# Altium footprint library Connector_PinHeader_1.27mm.PcbLib: 278 footprints (part 13 of 18)
Each footprint in its own frame and in the unit in brackets; x right, y up, seen from the top. Pads: shape width x height; smd on the part's side, far side on the other; paste and mask are expansions set on the pad; w line width, h text height; cw(c..) or ccw(c..) is an arc to the next point about the centre after c.
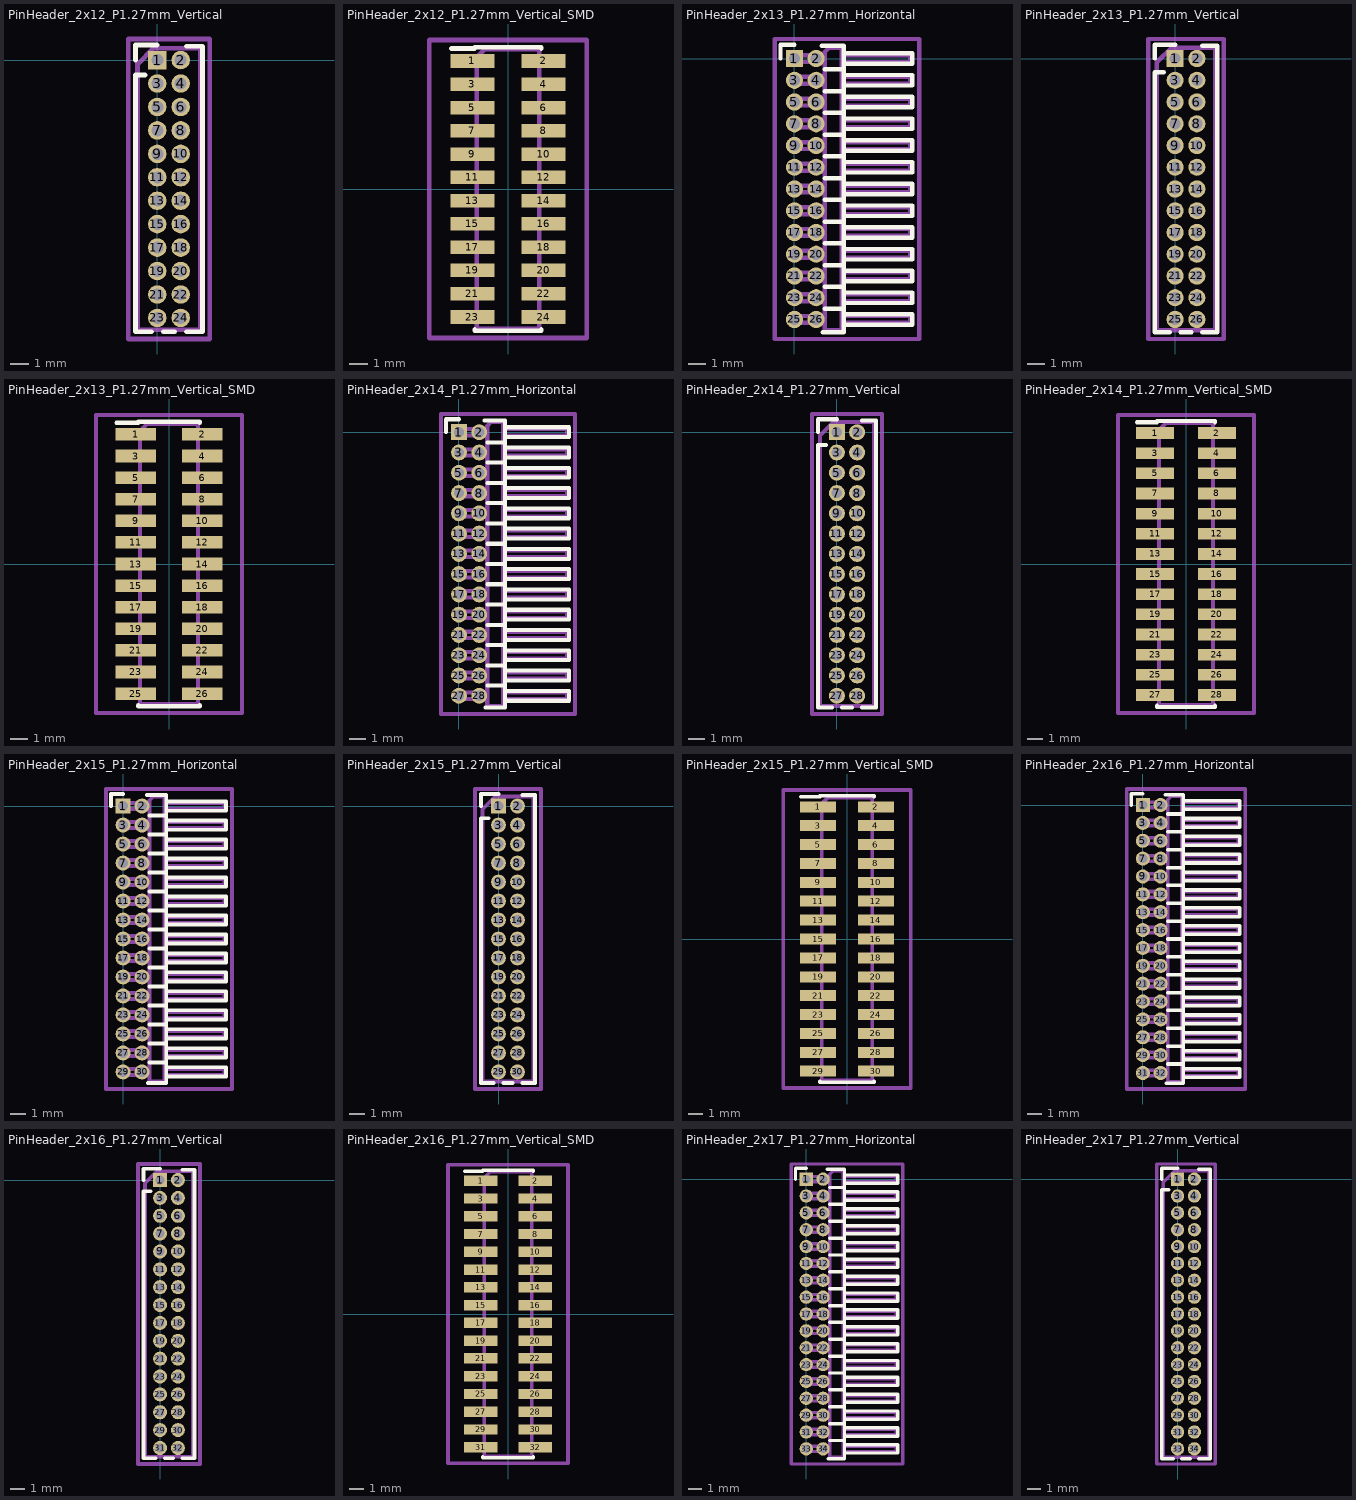
[diagram p12: the footprints below, top view; thin cyan lines are the x and y axes]

## PinHeader_2x12_P1.27mm_Vertical [mm]
pads (24):
  rect 1x1 hole 0.65: 1(0,0)
  round 1 hole 0.65: 2(1.27,0) 3(0,-1.27) 4(1.27,-1.27) 5(0,-2.54) 6(1.27,-2.54) 7(0,-3.81) 8(1.27,-3.81) 9(0,-5.08) 10(1.27,-5.08) 11(0,-6.35) 12(1.27,-6.35) 13(0,-7.62) 14(1.27,-7.62) 15(0,-8.89) 16(1.27,-8.89) 17(0,-10.16) 18(1.27,-10.16) 19(0,-11.43) 20(1.27,-11.43) 21(0,-12.7) 22(1.27,-12.7) 23(0,-13.97) 24(1.27,-13.97)
F.SilkS:
  lines w0.254: -1.18,0 -1.18,0.81 0,0.81 ; -0.667,-0.81 -1.18,-0.81 -1.18,-14.715 -0.318,-14.715 ; 0.318,-14.715 0.952,-14.715 ; 1.588,-14.715 2.45,-14.715 2.45,0.745 1.588,0.745
Top Assembly:
  lines w0.254: -1.07,-14.605 2.34,-14.605 2.34,0.635 -0.218,0.635 -1.07,-0.218 -1.07,-14.605
  text "'.Designator'" at 1.475,-11.032 h1
Top Courtyard:
  lines w0.254: -1.57,-15.11 2.84,-15.11 2.84,1.14 -1.57,1.14 -1.57,-15.11
Top Designator:
  text ".Designator" at -6.983,-7.493 h1.52

## PinHeader_2x12_P1.27mm_Vertical_SMD [mm]
pads (24):
  rect 2.4x0.74 smd: 1(-1.95,6.985) 2(1.95,6.985) 3(-1.95,5.715) 4(1.95,5.715) 5(-1.95,4.445) 6(1.95,4.445) 7(-1.95,3.175) 8(1.95,3.175) 9(-1.95,1.905) 10(1.95,1.905) 11(-1.95,0.635) 12(1.95,0.635) 13(-1.95,-0.635) 14(1.95,-0.635) 15(-1.95,-1.905) 16(1.95,-1.905) 17(-1.95,-3.175) 18(1.95,-3.175) 19(-1.95,-4.445) 20(1.95,-4.445) 21(-1.95,-5.715) 22(1.95,-5.715) 23(-1.95,-6.985) 24(1.95,-6.985)
F.SilkS:
  lines w0.254: -3.09,7.665 -1.815,7.665 -1.815,7.73 1.815,7.73 1.815,7.665 ; -1.815,-7.665 -1.815,-7.73 1.815,-7.73 1.815,-7.665
Top Assembly:
  lines w0.254: -1.705,-7.185 -2.75,-7.185 -2.75,-6.785 -1.705,-6.785 ; -1.705,-5.915 -2.75,-5.915 -2.75,-5.515 -1.705,-5.515 ; -1.705,-4.645 -2.75,-4.645 -2.75,-4.245 -1.705,-4.245 ; -1.705,-3.375 -2.75,-3.375 -2.75,-2.975 -1.705,-2.975 ; -1.705,-2.105 -2.75,-2.105 -2.75,-1.705 -1.705,-1.705 ; -1.705,-0.835 -2.75,-0.835 -2.75,-0.435 -1.705,-0.435 ; -1.705,0.435 -2.75,0.435 -2.75,0.835 -1.705,0.835 ; -1.705,1.705 -2.75,1.705 -2.75,2.105 -1.705,2.105 ; -1.705,2.975 -2.75,2.975 -2.75,3.375 -1.705,3.375 ; -1.705,4.245 -2.75,4.245 -2.75,4.645 -1.705,4.645 ; -1.705,5.515 -2.75,5.515 -2.75,5.915 -1.705,5.915 ; -1.705,6.785 -2.75,6.785 -2.75,7.185 -1.705,7.185 ; 1.705,-7.185 2.75,-7.185 2.75,-6.785 1.705,-6.785 ; 1.705,-5.915 2.75,-5.915 2.75,-5.515 1.705,-5.515 ; 1.705,-4.645 2.75,-4.645 2.75,-4.245 1.705,-4.245 ; 1.705,-3.375 2.75,-3.375 2.75,-2.975 1.705,-2.975 ; 1.705,-2.105 2.75,-2.105 2.75,-1.705 1.705,-1.705 ; 1.705,-0.835 2.75,-0.835 2.75,-0.435 1.705,-0.435 ; 1.705,0.435 2.75,0.435 2.75,0.835 1.705,0.835 ; 1.705,1.705 2.75,1.705 2.75,2.105 1.705,2.105 ; 1.705,2.975 2.75,2.975 2.75,3.375 1.705,3.375 ; 1.705,4.245 2.75,4.245 2.75,4.645 1.705,4.645 ; 1.705,5.515 2.75,5.515 2.75,5.915 1.705,5.915 ; 1.705,6.785 2.75,6.785 2.75,7.185 1.705,7.185 ; -1.705,7.185 -1.705,-7.62 1.705,-7.62 1.705,7.62 -1.27,7.62 -1.705,7.185
  text "'.Designator'" at 0.84,-4.047 h1
Top Courtyard:
  lines w0.254: -4.29,-8.13 4.29,-8.13 4.29,8.13 -4.29,8.13 -4.29,-8.13
Top Designator:
  text ".Designator" at -7.618,-0.508 h1.52

## PinHeader_2x13_P1.27mm_Horizontal [mm]
pads (26):
  rect 1x1 hole 0.65: 1(0,0)
  round 1 hole 0.65: 2(1.27,0) 3(0,-1.27) 4(1.27,-1.27) 5(0,-2.54) 6(1.27,-2.54) 7(0,-3.81) 8(1.27,-3.81) 9(0,-5.08) 10(1.27,-5.08) 11(0,-6.35) 12(1.27,-6.35) 13(0,-7.62) 14(1.27,-7.62) 15(0,-8.89) 16(1.27,-8.89) 17(0,-10.16) 18(1.27,-10.16) 19(0,-11.43) 20(1.27,-11.43) 21(0,-12.7) 22(1.27,-12.7) 23(0,-13.97) 24(1.27,-13.97) 25(0,-15.24) 26(1.27,-15.24)
F.SilkS:
  lines w0.254: -0.81,0 -0.81,0.81 0,0.81 ; 1.588,0.745 2.88,0.745 2.88,-15.985 1.66,-15.985 ; 1.773,-14.605 2.88,-14.605 ; 1.773,-13.335 2.88,-13.335 ; 1.773,-12.065 2.88,-12.065 ; 1.773,-10.795 2.88,-10.795 ; 1.773,-9.525 2.88,-9.525 ; 1.773,-8.255 2.88,-8.255 ; 1.773,-6.985 2.88,-6.985 ; 1.773,-5.715 2.88,-5.715 ; 1.773,-4.445 2.88,-4.445 ; 1.773,-3.175 2.88,-3.175 ; 1.773,-1.905 2.88,-1.905 ; 1.773,-0.635 2.88,-0.635 ; 2.88,-15.55 6.88,-15.55 6.88,-14.93 2.88,-14.93 ; 2.88,-14.28 6.88,-14.28 6.88,-13.66 2.88,-13.66 ; 2.88,-13.01 6.88,-13.01 6.88,-12.39 2.88,-12.39 ; 2.88,-11.74 6.88,-11.74 6.88,-11.12 2.88,-11.12 ; 2.88,-10.47 6.88,-10.47 6.88,-9.85 2.88,-9.85 ; 2.88,-9.2 6.88,-9.2 6.88,-8.58 2.88,-8.58 ; 2.88,-7.93 6.88,-7.93 6.88,-7.31 2.88,-7.31 ; 2.88,-6.66 6.88,-6.66 6.88,-6.04 2.88,-6.04 ; 2.88,-5.39 6.88,-5.39 6.88,-4.77 2.88,-4.77 ; 2.88,-4.12 6.88,-4.12 6.88,-3.5 2.88,-3.5 ; 2.88,-2.85 6.88,-2.85 6.88,-2.23 2.88,-2.23 ; 2.88,-1.58 6.88,-1.58 6.88,-0.96 2.88,-0.96 ; 2.88,-0.31 6.88,-0.31 6.88,0.31 2.88,0.31 2.88,-0.31
Top Assembly:
  lines w0.254: 1.77,-15.44 -0.2,-15.44 -0.2,-15.04 1.77,-15.04 ; 1.77,-14.17 -0.2,-14.17 -0.2,-13.77 1.77,-13.77 ; 1.77,-12.9 -0.2,-12.9 -0.2,-12.5 1.77,-12.5 ; 1.77,-11.63 -0.2,-11.63 -0.2,-11.23 1.77,-11.23 ; 1.77,-10.36 -0.2,-10.36 -0.2,-9.96 1.77,-9.96 ; 1.77,-9.09 -0.2,-9.09 -0.2,-8.69 1.77,-8.69 ; 1.77,-7.82 -0.2,-7.82 -0.2,-7.42 1.77,-7.42 ; 1.77,-6.55 -0.2,-6.55 -0.2,-6.15 1.77,-6.15 ; 1.77,-5.28 -0.2,-5.28 -0.2,-4.88 1.77,-4.88 ; 1.77,-4.01 -0.2,-4.01 -0.2,-3.61 1.77,-3.61 ; 1.77,-2.74 -0.2,-2.74 -0.2,-2.34 1.77,-2.34 ; 1.77,-1.47 -0.2,-1.47 -0.2,-1.07 1.77,-1.07 ; 1.77,-0.2 -0.2,-0.2 -0.2,0.2 1.77,0.2 ; 2.77,-15.44 6.77,-15.44 6.77,-15.04 2.77,-15.04 ; 2.77,-14.17 6.77,-14.17 6.77,-13.77 2.77,-13.77 ; 2.77,-12.9 6.77,-12.9 6.77,-12.5 2.77,-12.5 ; 2.77,-11.63 6.77,-11.63 6.77,-11.23 2.77,-11.23 ; 2.77,-10.36 6.77,-10.36 6.77,-9.96 2.77,-9.96 ; 2.77,-9.09 6.77,-9.09 6.77,-8.69 2.77,-8.69 ; 2.77,-7.82 6.77,-7.82 6.77,-7.42 2.77,-7.42 ; 2.77,-6.55 6.77,-6.55 6.77,-6.15 2.77,-6.15 ; 2.77,-5.28 6.77,-5.28 6.77,-4.88 2.77,-4.88 ; 2.77,-4.01 6.77,-4.01 6.77,-3.61 2.77,-3.61 ; 2.77,-2.74 6.77,-2.74 6.77,-2.34 2.77,-2.34 ; 2.77,-1.47 6.77,-1.47 6.77,-1.07 2.77,-1.07 ; 2.77,-0.2 6.77,-0.2 6.77,0.2 2.77,0.2 ; 1.77,-15.875 2.77,-15.875 2.77,0.635 2.02,0.635 1.77,0.385 1.77,-15.875
  text "'.Designator'" at 2.774,-10.048 h0.6
Top Courtyard:
  lines w0.254: -1.14,-16.38 7.28,-16.38 7.28,1.14 -1.14,1.14 -1.14,-16.38
Top Designator:
  text ".Designator" at -4.548,-8.128 h1.52

## PinHeader_2x13_P1.27mm_Vertical [mm]
pads (26):
  rect 1x1 hole 0.65: 1(0,0)
  round 1 hole 0.65: 2(1.27,0) 3(0,-1.27) 4(1.27,-1.27) 5(0,-2.54) 6(1.27,-2.54) 7(0,-3.81) 8(1.27,-3.81) 9(0,-5.08) 10(1.27,-5.08) 11(0,-6.35) 12(1.27,-6.35) 13(0,-7.62) 14(1.27,-7.62) 15(0,-8.89) 16(1.27,-8.89) 17(0,-10.16) 18(1.27,-10.16) 19(0,-11.43) 20(1.27,-11.43) 21(0,-12.7) 22(1.27,-12.7) 23(0,-13.97) 24(1.27,-13.97) 25(0,-15.24) 26(1.27,-15.24)
F.SilkS:
  lines w0.254: -1.18,0 -1.18,0.81 0,0.81 ; -0.667,-0.81 -1.18,-0.81 -1.18,-15.985 -0.318,-15.985 ; 0.318,-15.985 0.952,-15.985 ; 1.588,-15.985 2.45,-15.985 2.45,0.745 1.588,0.745
Top Assembly:
  lines w0.254: -1.07,-15.875 2.34,-15.875 2.34,0.635 -0.218,0.635 -1.07,-0.218 -1.07,-15.875
  text "'.Designator'" at 1.475,-11.667 h1
Top Courtyard:
  lines w0.254: -1.57,-16.38 2.84,-16.38 2.84,1.14 -1.57,1.14 -1.57,-16.38
Top Designator:
  text ".Designator" at -6.983,-8.128 h1.52

## PinHeader_2x13_P1.27mm_Vertical_SMD [mm]
pads (26):
  rect 2.4x0.74 smd: 1(-1.95,7.62) 2(1.95,7.62) 3(-1.95,6.35) 4(1.95,6.35) 5(-1.95,5.08) 6(1.95,5.08) 7(-1.95,3.81) 8(1.95,3.81) 9(-1.95,2.54) 10(1.95,2.54) 11(-1.95,1.27) 12(1.95,1.27) 13(-1.95,0) 14(1.95,0) 15(-1.95,-1.27) 16(1.95,-1.27) 17(-1.95,-2.54) 18(1.95,-2.54) 19(-1.95,-3.81) 20(1.95,-3.81) 21(-1.95,-5.08) 22(1.95,-5.08) 23(-1.95,-6.35) 24(1.95,-6.35) 25(-1.95,-7.62) 26(1.95,-7.62)
F.SilkS:
  lines w0.254: -3.09,8.3 -1.815,8.3 -1.815,8.365 1.815,8.365 1.815,8.3 ; -1.815,-8.3 -1.815,-8.365 1.815,-8.365 1.815,-8.3
Top Assembly:
  lines w0.254: -1.705,-7.82 -2.75,-7.82 -2.75,-7.42 -1.705,-7.42 ; -1.705,-6.55 -2.75,-6.55 -2.75,-6.15 -1.705,-6.15 ; -1.705,-5.28 -2.75,-5.28 -2.75,-4.88 -1.705,-4.88 ; -1.705,-4.01 -2.75,-4.01 -2.75,-3.61 -1.705,-3.61 ; -1.705,-2.74 -2.75,-2.74 -2.75,-2.34 -1.705,-2.34 ; -1.705,-1.47 -2.75,-1.47 -2.75,-1.07 -1.705,-1.07 ; -1.705,-0.2 -2.75,-0.2 -2.75,0.2 -1.705,0.2 ; -1.705,1.07 -2.75,1.07 -2.75,1.47 -1.705,1.47 ; -1.705,2.34 -2.75,2.34 -2.75,2.74 -1.705,2.74 ; -1.705,3.61 -2.75,3.61 -2.75,4.01 -1.705,4.01 ; -1.705,4.88 -2.75,4.88 -2.75,5.28 -1.705,5.28 ; -1.705,6.15 -2.75,6.15 -2.75,6.55 -1.705,6.55 ; -1.705,7.42 -2.75,7.42 -2.75,7.82 -1.705,7.82 ; 1.705,-7.82 2.75,-7.82 2.75,-7.42 1.705,-7.42 ; 1.705,-6.55 2.75,-6.55 2.75,-6.15 1.705,-6.15 ; 1.705,-5.28 2.75,-5.28 2.75,-4.88 1.705,-4.88 ; 1.705,-4.01 2.75,-4.01 2.75,-3.61 1.705,-3.61 ; 1.705,-2.74 2.75,-2.74 2.75,-2.34 1.705,-2.34 ; 1.705,-1.47 2.75,-1.47 2.75,-1.07 1.705,-1.07 ; 1.705,-0.2 2.75,-0.2 2.75,0.2 1.705,0.2 ; 1.705,1.07 2.75,1.07 2.75,1.47 1.705,1.47 ; 1.705,2.34 2.75,2.34 2.75,2.74 1.705,2.74 ; 1.705,3.61 2.75,3.61 2.75,4.01 1.705,4.01 ; 1.705,4.88 2.75,4.88 2.75,5.28 1.705,5.28 ; 1.705,6.15 2.75,6.15 2.75,6.55 1.705,6.55 ; 1.705,7.42 2.75,7.42 2.75,7.82 1.705,7.82 ; -1.705,7.82 -1.705,-8.255 1.705,-8.255 1.705,8.255 -1.27,8.255 -1.705,7.82
  text "'.Designator'" at 0.84,-4.047 h1
Top Courtyard:
  lines w0.254: -4.29,-8.76 4.29,-8.76 4.29,8.76 -4.29,8.76 -4.29,-8.76
Top Designator:
  text ".Designator" at -7.618,-0.508 h1.52

## PinHeader_2x14_P1.27mm_Horizontal [mm]
pads (28):
  rect 1x1 hole 0.65: 1(0,0)
  round 1 hole 0.65: 2(1.27,0) 3(0,-1.27) 4(1.27,-1.27) 5(0,-2.54) 6(1.27,-2.54) 7(0,-3.81) 8(1.27,-3.81) 9(0,-5.08) 10(1.27,-5.08) 11(0,-6.35) 12(1.27,-6.35) 13(0,-7.62) 14(1.27,-7.62) 15(0,-8.89) 16(1.27,-8.89) 17(0,-10.16) 18(1.27,-10.16) 19(0,-11.43) 20(1.27,-11.43) 21(0,-12.7) 22(1.27,-12.7) 23(0,-13.97) 24(1.27,-13.97) 25(0,-15.24) 26(1.27,-15.24) 27(0,-16.51) 28(1.27,-16.51)
F.SilkS:
  lines w0.254: -0.81,0 -0.81,0.81 0,0.81 ; 1.588,0.745 2.88,0.745 2.88,-17.255 1.66,-17.255 ; 1.773,-15.875 2.88,-15.875 ; 1.773,-14.605 2.88,-14.605 ; 1.773,-13.335 2.88,-13.335 ; 1.773,-12.065 2.88,-12.065 ; 1.773,-10.795 2.88,-10.795 ; 1.773,-9.525 2.88,-9.525 ; 1.773,-8.255 2.88,-8.255 ; 1.773,-6.985 2.88,-6.985 ; 1.773,-5.715 2.88,-5.715 ; 1.773,-4.445 2.88,-4.445 ; 1.773,-3.175 2.88,-3.175 ; 1.773,-1.905 2.88,-1.905 ; 1.773,-0.635 2.88,-0.635 ; 2.88,-16.82 6.88,-16.82 6.88,-16.2 2.88,-16.2 ; 2.88,-15.55 6.88,-15.55 6.88,-14.93 2.88,-14.93 ; 2.88,-14.28 6.88,-14.28 6.88,-13.66 2.88,-13.66 ; 2.88,-13.01 6.88,-13.01 6.88,-12.39 2.88,-12.39 ; 2.88,-11.74 6.88,-11.74 6.88,-11.12 2.88,-11.12 ; 2.88,-10.47 6.88,-10.47 6.88,-9.85 2.88,-9.85 ; 2.88,-9.2 6.88,-9.2 6.88,-8.58 2.88,-8.58 ; 2.88,-7.93 6.88,-7.93 6.88,-7.31 2.88,-7.31 ; 2.88,-6.66 6.88,-6.66 6.88,-6.04 2.88,-6.04 ; 2.88,-5.39 6.88,-5.39 6.88,-4.77 2.88,-4.77 ; 2.88,-4.12 6.88,-4.12 6.88,-3.5 2.88,-3.5 ; 2.88,-2.85 6.88,-2.85 6.88,-2.23 2.88,-2.23 ; 2.88,-1.58 6.88,-1.58 6.88,-0.96 2.88,-0.96 ; 2.88,-0.31 6.88,-0.31 6.88,0.31 2.88,0.31 2.88,-0.31
Top Assembly:
  lines w0.254: 1.77,-16.71 -0.2,-16.71 -0.2,-16.31 1.77,-16.31 ; 1.77,-15.44 -0.2,-15.44 -0.2,-15.04 1.77,-15.04 ; 1.77,-14.17 -0.2,-14.17 -0.2,-13.77 1.77,-13.77 ; 1.77,-12.9 -0.2,-12.9 -0.2,-12.5 1.77,-12.5 ; 1.77,-11.63 -0.2,-11.63 -0.2,-11.23 1.77,-11.23 ; 1.77,-10.36 -0.2,-10.36 -0.2,-9.96 1.77,-9.96 ; 1.77,-9.09 -0.2,-9.09 -0.2,-8.69 1.77,-8.69 ; 1.77,-7.82 -0.2,-7.82 -0.2,-7.42 1.77,-7.42 ; 1.77,-6.55 -0.2,-6.55 -0.2,-6.15 1.77,-6.15 ; 1.77,-5.28 -0.2,-5.28 -0.2,-4.88 1.77,-4.88 ; 1.77,-4.01 -0.2,-4.01 -0.2,-3.61 1.77,-3.61 ; 1.77,-2.74 -0.2,-2.74 -0.2,-2.34 1.77,-2.34 ; 1.77,-1.47 -0.2,-1.47 -0.2,-1.07 1.77,-1.07 ; 1.77,-0.2 -0.2,-0.2 -0.2,0.2 1.77,0.2 ; 2.77,-16.71 6.77,-16.71 6.77,-16.31 2.77,-16.31 ; 2.77,-15.44 6.77,-15.44 6.77,-15.04 2.77,-15.04 ; 2.77,-14.17 6.77,-14.17 6.77,-13.77 2.77,-13.77 ; 2.77,-12.9 6.77,-12.9 6.77,-12.5 2.77,-12.5 ; 2.77,-11.63 6.77,-11.63 6.77,-11.23 2.77,-11.23 ; 2.77,-10.36 6.77,-10.36 6.77,-9.96 2.77,-9.96 ; 2.77,-9.09 6.77,-9.09 6.77,-8.69 2.77,-8.69 ; 2.77,-7.82 6.77,-7.82 6.77,-7.42 2.77,-7.42 ; 2.77,-6.55 6.77,-6.55 6.77,-6.15 2.77,-6.15 ; 2.77,-5.28 6.77,-5.28 6.77,-4.88 2.77,-4.88 ; 2.77,-4.01 6.77,-4.01 6.77,-3.61 2.77,-3.61 ; 2.77,-2.74 6.77,-2.74 6.77,-2.34 2.77,-2.34 ; 2.77,-1.47 6.77,-1.47 6.77,-1.07 2.77,-1.07 ; 2.77,-0.2 6.77,-0.2 6.77,0.2 2.77,0.2 ; 1.77,-17.145 2.77,-17.145 2.77,0.635 2.02,0.635 1.77,0.385 1.77,-17.145
  text "'.Designator'" at 2.774,-10.683 h0.6
Top Courtyard:
  lines w0.254: -1.14,-17.65 7.28,-17.65 7.28,1.14 -1.14,1.14 -1.14,-17.65
Top Designator:
  text ".Designator" at -4.548,-8.763 h1.52

## PinHeader_2x14_P1.27mm_Vertical [mm]
pads (28):
  rect 1x1 hole 0.65: 1(0,0)
  round 1 hole 0.65: 2(1.27,0) 3(0,-1.27) 4(1.27,-1.27) 5(0,-2.54) 6(1.27,-2.54) 7(0,-3.81) 8(1.27,-3.81) 9(0,-5.08) 10(1.27,-5.08) 11(0,-6.35) 12(1.27,-6.35) 13(0,-7.62) 14(1.27,-7.62) 15(0,-8.89) 16(1.27,-8.89) 17(0,-10.16) 18(1.27,-10.16) 19(0,-11.43) 20(1.27,-11.43) 21(0,-12.7) 22(1.27,-12.7) 23(0,-13.97) 24(1.27,-13.97) 25(0,-15.24) 26(1.27,-15.24) 27(0,-16.51) 28(1.27,-16.51)
F.SilkS:
  lines w0.254: -1.18,0 -1.18,0.81 0,0.81 ; -0.667,-0.81 -1.18,-0.81 -1.18,-17.255 -0.318,-17.255 ; 0.318,-17.255 0.952,-17.255 ; 1.588,-17.255 2.45,-17.255 2.45,0.745 1.588,0.745
Top Assembly:
  lines w0.254: -1.07,-17.145 2.34,-17.145 2.34,0.635 -0.218,0.635 -1.07,-0.218 -1.07,-17.145
  text "'.Designator'" at 1.475,-12.302 h1
Top Courtyard:
  lines w0.254: -1.57,-17.65 2.84,-17.65 2.84,1.14 -1.57,1.14 -1.57,-17.65
Top Designator:
  text ".Designator" at -6.983,-8.763 h1.52

## PinHeader_2x14_P1.27mm_Vertical_SMD [mm]
pads (28):
  rect 2.4x0.74 smd: 1(-1.95,8.255) 2(1.95,8.255) 3(-1.95,6.985) 4(1.95,6.985) 5(-1.95,5.715) 6(1.95,5.715) 7(-1.95,4.445) 8(1.95,4.445) 9(-1.95,3.175) 10(1.95,3.175) 11(-1.95,1.905) 12(1.95,1.905) 13(-1.95,0.635) 14(1.95,0.635) 15(-1.95,-0.635) 16(1.95,-0.635) 17(-1.95,-1.905) 18(1.95,-1.905) 19(-1.95,-3.175) 20(1.95,-3.175) 21(-1.95,-4.445) 22(1.95,-4.445) 23(-1.95,-5.715) 24(1.95,-5.715) 25(-1.95,-6.985) 26(1.95,-6.985) 27(-1.95,-8.255) 28(1.95,-8.255)
F.SilkS:
  lines w0.254: -3.09,8.935 -1.815,8.935 -1.815,9 1.815,9 1.815,8.935 ; -1.815,-8.935 -1.815,-9 1.815,-9 1.815,-8.935
Top Assembly:
  lines w0.254: -1.705,-8.455 -2.75,-8.455 -2.75,-8.055 -1.705,-8.055 ; -1.705,-7.185 -2.75,-7.185 -2.75,-6.785 -1.705,-6.785 ; -1.705,-5.915 -2.75,-5.915 -2.75,-5.515 -1.705,-5.515 ; -1.705,-4.645 -2.75,-4.645 -2.75,-4.245 -1.705,-4.245 ; -1.705,-3.375 -2.75,-3.375 -2.75,-2.975 -1.705,-2.975 ; -1.705,-2.105 -2.75,-2.105 -2.75,-1.705 -1.705,-1.705 ; -1.705,-0.835 -2.75,-0.835 -2.75,-0.435 -1.705,-0.435 ; -1.705,0.435 -2.75,0.435 -2.75,0.835 -1.705,0.835 ; -1.705,1.705 -2.75,1.705 -2.75,2.105 -1.705,2.105 ; -1.705,2.975 -2.75,2.975 -2.75,3.375 -1.705,3.375 ; -1.705,4.245 -2.75,4.245 -2.75,4.645 -1.705,4.645 ; -1.705,5.515 -2.75,5.515 -2.75,5.915 -1.705,5.915 ; -1.705,6.785 -2.75,6.785 -2.75,7.185 -1.705,7.185 ; -1.705,8.055 -2.75,8.055 -2.75,8.455 -1.705,8.455 ; 1.705,-8.455 2.75,-8.455 2.75,-8.055 1.705,-8.055 ; 1.705,-7.185 2.75,-7.185 2.75,-6.785 1.705,-6.785 ; 1.705,-5.915 2.75,-5.915 2.75,-5.515 1.705,-5.515 ; 1.705,-4.645 2.75,-4.645 2.75,-4.245 1.705,-4.245 ; 1.705,-3.375 2.75,-3.375 2.75,-2.975 1.705,-2.975 ; 1.705,-2.105 2.75,-2.105 2.75,-1.705 1.705,-1.705 ; 1.705,-0.835 2.75,-0.835 2.75,-0.435 1.705,-0.435 ; 1.705,0.435 2.75,0.435 2.75,0.835 1.705,0.835 ; 1.705,1.705 2.75,1.705 2.75,2.105 1.705,2.105 ; 1.705,2.975 2.75,2.975 2.75,3.375 1.705,3.375 ; 1.705,4.245 2.75,4.245 2.75,4.645 1.705,4.645 ; 1.705,5.515 2.75,5.515 2.75,5.915 1.705,5.915 ; 1.705,6.785 2.75,6.785 2.75,7.185 1.705,7.185 ; 1.705,8.055 2.75,8.055 2.75,8.455 1.705,8.455 ; -1.705,8.455 -1.705,-8.89 1.705,-8.89 1.705,8.89 -1.27,8.89 -1.705,8.455
  text "'.Designator'" at 0.84,-4.047 h1
Top Courtyard:
  lines w0.254: -4.29,-9.4 4.29,-9.4 4.29,9.4 -4.29,9.4 -4.29,-9.4
Top Designator:
  text ".Designator" at -7.618,-0.508 h1.52

## PinHeader_2x15_P1.27mm_Horizontal [mm]
pads (30):
  rect 1x1 hole 0.65: 1(0,0)
  round 1 hole 0.65: 2(1.27,0) 3(0,-1.27) 4(1.27,-1.27) 5(0,-2.54) 6(1.27,-2.54) 7(0,-3.81) 8(1.27,-3.81) 9(0,-5.08) 10(1.27,-5.08) 11(0,-6.35) 12(1.27,-6.35) 13(0,-7.62) 14(1.27,-7.62) 15(0,-8.89) 16(1.27,-8.89) 17(0,-10.16) 18(1.27,-10.16) 19(0,-11.43) 20(1.27,-11.43) 21(0,-12.7) 22(1.27,-12.7) 23(0,-13.97) 24(1.27,-13.97) 25(0,-15.24) 26(1.27,-15.24) 27(0,-16.51) 28(1.27,-16.51) 29(0,-17.78) 30(1.27,-17.78)
F.SilkS:
  lines w0.254: -0.81,0 -0.81,0.81 0,0.81 ; 1.588,0.745 2.88,0.745 2.88,-18.525 1.66,-18.525 ; 1.773,-17.145 2.88,-17.145 ; 1.773,-15.875 2.88,-15.875 ; 1.773,-14.605 2.88,-14.605 ; 1.773,-13.335 2.88,-13.335 ; 1.773,-12.065 2.88,-12.065 ; 1.773,-10.795 2.88,-10.795 ; 1.773,-9.525 2.88,-9.525 ; 1.773,-8.255 2.88,-8.255 ; 1.773,-6.985 2.88,-6.985 ; 1.773,-5.715 2.88,-5.715 ; 1.773,-4.445 2.88,-4.445 ; 1.773,-3.175 2.88,-3.175 ; 1.773,-1.905 2.88,-1.905 ; 1.773,-0.635 2.88,-0.635 ; 2.88,-18.09 6.88,-18.09 6.88,-17.47 2.88,-17.47 ; 2.88,-16.82 6.88,-16.82 6.88,-16.2 2.88,-16.2 ; 2.88,-15.55 6.88,-15.55 6.88,-14.93 2.88,-14.93 ; 2.88,-14.28 6.88,-14.28 6.88,-13.66 2.88,-13.66 ; 2.88,-13.01 6.88,-13.01 6.88,-12.39 2.88,-12.39 ; 2.88,-11.74 6.88,-11.74 6.88,-11.12 2.88,-11.12 ; 2.88,-10.47 6.88,-10.47 6.88,-9.85 2.88,-9.85 ; 2.88,-9.2 6.88,-9.2 6.88,-8.58 2.88,-8.58 ; 2.88,-7.93 6.88,-7.93 6.88,-7.31 2.88,-7.31 ; 2.88,-6.66 6.88,-6.66 6.88,-6.04 2.88,-6.04 ; 2.88,-5.39 6.88,-5.39 6.88,-4.77 2.88,-4.77 ; 2.88,-4.12 6.88,-4.12 6.88,-3.5 2.88,-3.5 ; 2.88,-2.85 6.88,-2.85 6.88,-2.23 2.88,-2.23 ; 2.88,-1.58 6.88,-1.58 6.88,-0.96 2.88,-0.96 ; 2.88,-0.31 6.88,-0.31 6.88,0.31 2.88,0.31 2.88,-0.31
Top Assembly:
  lines w0.254: 1.77,-17.98 -0.2,-17.98 -0.2,-17.58 1.77,-17.58 ; 1.77,-16.71 -0.2,-16.71 -0.2,-16.31 1.77,-16.31 ; 1.77,-15.44 -0.2,-15.44 -0.2,-15.04 1.77,-15.04 ; 1.77,-14.17 -0.2,-14.17 -0.2,-13.77 1.77,-13.77 ; 1.77,-12.9 -0.2,-12.9 -0.2,-12.5 1.77,-12.5 ; 1.77,-11.63 -0.2,-11.63 -0.2,-11.23 1.77,-11.23 ; 1.77,-10.36 -0.2,-10.36 -0.2,-9.96 1.77,-9.96 ; 1.77,-9.09 -0.2,-9.09 -0.2,-8.69 1.77,-8.69 ; 1.77,-7.82 -0.2,-7.82 -0.2,-7.42 1.77,-7.42 ; 1.77,-6.55 -0.2,-6.55 -0.2,-6.15 1.77,-6.15 ; 1.77,-5.28 -0.2,-5.28 -0.2,-4.88 1.77,-4.88 ; 1.77,-4.01 -0.2,-4.01 -0.2,-3.61 1.77,-3.61 ; 1.77,-2.74 -0.2,-2.74 -0.2,-2.34 1.77,-2.34 ; 1.77,-1.47 -0.2,-1.47 -0.2,-1.07 1.77,-1.07 ; 1.77,-0.2 -0.2,-0.2 -0.2,0.2 1.77,0.2 ; 2.77,-17.98 6.77,-17.98 6.77,-17.58 2.77,-17.58 ; 2.77,-16.71 6.77,-16.71 6.77,-16.31 2.77,-16.31 ; 2.77,-15.44 6.77,-15.44 6.77,-15.04 2.77,-15.04 ; 2.77,-14.17 6.77,-14.17 6.77,-13.77 2.77,-13.77 ; 2.77,-12.9 6.77,-12.9 6.77,-12.5 2.77,-12.5 ; 2.77,-11.63 6.77,-11.63 6.77,-11.23 2.77,-11.23 ; 2.77,-10.36 6.77,-10.36 6.77,-9.96 2.77,-9.96 ; 2.77,-9.09 6.77,-9.09 6.77,-8.69 2.77,-8.69 ; 2.77,-7.82 6.77,-7.82 6.77,-7.42 2.77,-7.42 ; 2.77,-6.55 6.77,-6.55 6.77,-6.15 2.77,-6.15 ; 2.77,-5.28 6.77,-5.28 6.77,-4.88 2.77,-4.88 ; 2.77,-4.01 6.77,-4.01 6.77,-3.61 2.77,-3.61 ; 2.77,-2.74 6.77,-2.74 6.77,-2.34 2.77,-2.34 ; 2.77,-1.47 6.77,-1.47 6.77,-1.07 2.77,-1.07 ; 2.77,-0.2 6.77,-0.2 6.77,0.2 2.77,0.2 ; 1.77,-18.415 2.77,-18.415 2.77,0.635 2.02,0.635 1.77,0.385 1.77,-18.415
  text "'.Designator'" at 2.774,-11.318 h0.6
Top Courtyard:
  lines w0.254: -1.14,-18.92 7.28,-18.92 7.28,1.14 -1.14,1.14 -1.14,-18.92
Top Designator:
  text ".Designator" at -4.548,-9.398 h1.52

## PinHeader_2x15_P1.27mm_Vertical [mm]
pads (30):
  rect 1x1 hole 0.65: 1(0,0)
  round 1 hole 0.65: 2(1.27,0) 3(0,-1.27) 4(1.27,-1.27) 5(0,-2.54) 6(1.27,-2.54) 7(0,-3.81) 8(1.27,-3.81) 9(0,-5.08) 10(1.27,-5.08) 11(0,-6.35) 12(1.27,-6.35) 13(0,-7.62) 14(1.27,-7.62) 15(0,-8.89) 16(1.27,-8.89) 17(0,-10.16) 18(1.27,-10.16) 19(0,-11.43) 20(1.27,-11.43) 21(0,-12.7) 22(1.27,-12.7) 23(0,-13.97) 24(1.27,-13.97) 25(0,-15.24) 26(1.27,-15.24) 27(0,-16.51) 28(1.27,-16.51) 29(0,-17.78) 30(1.27,-17.78)
F.SilkS:
  lines w0.254: -1.18,0 -1.18,0.81 0,0.81 ; -0.667,-0.81 -1.18,-0.81 -1.18,-18.525 -0.318,-18.525 ; 0.318,-18.525 0.952,-18.525 ; 1.588,-18.525 2.45,-18.525 2.45,0.745 1.588,0.745
Top Assembly:
  lines w0.254: -1.07,-18.415 2.34,-18.415 2.34,0.635 -0.218,0.635 -1.07,-0.218 -1.07,-18.415
  text "'.Designator'" at 1.475,-12.937 h1
Top Courtyard:
  lines w0.254: -1.57,-18.92 2.84,-18.92 2.84,1.14 -1.57,1.14 -1.57,-18.92
Top Designator:
  text ".Designator" at -6.983,-9.398 h1.52

## PinHeader_2x15_P1.27mm_Vertical_SMD [mm]
pads (30):
  rect 2.4x0.74 smd: 1(-1.95,8.89) 2(1.95,8.89) 3(-1.95,7.62) 4(1.95,7.62) 5(-1.95,6.35) 6(1.95,6.35) 7(-1.95,5.08) 8(1.95,5.08) 9(-1.95,3.81) 10(1.95,3.81) 11(-1.95,2.54) 12(1.95,2.54) 13(-1.95,1.27) 14(1.95,1.27) 15(-1.95,0) 16(1.95,0) 17(-1.95,-1.27) 18(1.95,-1.27) 19(-1.95,-2.54) 20(1.95,-2.54) 21(-1.95,-3.81) 22(1.95,-3.81) 23(-1.95,-5.08) 24(1.95,-5.08) 25(-1.95,-6.35) 26(1.95,-6.35) 27(-1.95,-7.62) 28(1.95,-7.62) 29(-1.95,-8.89) 30(1.95,-8.89)
F.SilkS:
  lines w0.254: -3.09,9.57 -1.815,9.57 -1.815,9.635 1.815,9.635 1.815,9.57 ; -1.815,-9.57 -1.815,-9.635 1.815,-9.635 1.815,-9.57
Top Assembly:
  lines w0.254: -1.705,-9.09 -2.75,-9.09 -2.75,-8.69 -1.705,-8.69 ; -1.705,-7.82 -2.75,-7.82 -2.75,-7.42 -1.705,-7.42 ; -1.705,-6.55 -2.75,-6.55 -2.75,-6.15 -1.705,-6.15 ; -1.705,-5.28 -2.75,-5.28 -2.75,-4.88 -1.705,-4.88 ; -1.705,-4.01 -2.75,-4.01 -2.75,-3.61 -1.705,-3.61 ; -1.705,-2.74 -2.75,-2.74 -2.75,-2.34 -1.705,-2.34 ; -1.705,-1.47 -2.75,-1.47 -2.75,-1.07 -1.705,-1.07 ; -1.705,-0.2 -2.75,-0.2 -2.75,0.2 -1.705,0.2 ; -1.705,1.07 -2.75,1.07 -2.75,1.47 -1.705,1.47 ; -1.705,2.34 -2.75,2.34 -2.75,2.74 -1.705,2.74 ; -1.705,3.61 -2.75,3.61 -2.75,4.01 -1.705,4.01 ; -1.705,4.88 -2.75,4.88 -2.75,5.28 -1.705,5.28 ; -1.705,6.15 -2.75,6.15 -2.75,6.55 -1.705,6.55 ; -1.705,7.42 -2.75,7.42 -2.75,7.82 -1.705,7.82 ; -1.705,8.69 -2.75,8.69 -2.75,9.09 -1.705,9.09 ; 1.705,-9.09 2.75,-9.09 2.75,-8.69 1.705,-8.69 ; 1.705,-7.82 2.75,-7.82 2.75,-7.42 1.705,-7.42 ; 1.705,-6.55 2.75,-6.55 2.75,-6.15 1.705,-6.15 ; 1.705,-5.28 2.75,-5.28 2.75,-4.88 1.705,-4.88 ; 1.705,-4.01 2.75,-4.01 2.75,-3.61 1.705,-3.61 ; 1.705,-2.74 2.75,-2.74 2.75,-2.34 1.705,-2.34 ; 1.705,-1.47 2.75,-1.47 2.75,-1.07 1.705,-1.07 ; 1.705,-0.2 2.75,-0.2 2.75,0.2 1.705,0.2 ; 1.705,1.07 2.75,1.07 2.75,1.47 1.705,1.47 ; 1.705,2.34 2.75,2.34 2.75,2.74 1.705,2.74 ; 1.705,3.61 2.75,3.61 2.75,4.01 1.705,4.01 ; 1.705,4.88 2.75,4.88 2.75,5.28 1.705,5.28 ; 1.705,6.15 2.75,6.15 2.75,6.55 1.705,6.55 ; 1.705,7.42 2.75,7.42 2.75,7.82 1.705,7.82 ; 1.705,8.69 2.75,8.69 2.75,9.09 1.705,9.09 ; -1.705,9.09 -1.705,-9.525 1.705,-9.525 1.705,9.525 -1.27,9.525 -1.705,9.09
  text "'.Designator'" at 0.84,-4.047 h1
Top Courtyard:
  lines w0.254: -4.29,-10.03 4.29,-10.03 4.29,10.03 -4.29,10.03 -4.29,-10.03
Top Designator:
  text ".Designator" at -7.618,-0.508 h1.52

## PinHeader_2x16_P1.27mm_Horizontal [mm]
pads (32):
  rect 1x1 hole 0.65: 1(0,0)
  round 1 hole 0.65: 2(1.27,0) 3(0,-1.27) 4(1.27,-1.27) 5(0,-2.54) 6(1.27,-2.54) 7(0,-3.81) 8(1.27,-3.81) 9(0,-5.08) 10(1.27,-5.08) 11(0,-6.35) 12(1.27,-6.35) 13(0,-7.62) 14(1.27,-7.62) 15(0,-8.89) 16(1.27,-8.89) 17(0,-10.16) 18(1.27,-10.16) 19(0,-11.43) 20(1.27,-11.43) 21(0,-12.7) 22(1.27,-12.7) 23(0,-13.97) 24(1.27,-13.97) 25(0,-15.24) 26(1.27,-15.24) 27(0,-16.51) 28(1.27,-16.51) 29(0,-17.78) 30(1.27,-17.78) 31(0,-19.05) 32(1.27,-19.05)
F.SilkS:
  lines w0.254: -0.81,0 -0.81,0.81 0,0.81 ; 1.588,0.745 2.88,0.745 2.88,-19.795 1.66,-19.795 ; 1.773,-18.415 2.88,-18.415 ; 1.773,-17.145 2.88,-17.145 ; 1.773,-15.875 2.88,-15.875 ; 1.773,-14.605 2.88,-14.605 ; 1.773,-13.335 2.88,-13.335 ; 1.773,-12.065 2.88,-12.065 ; 1.773,-10.795 2.88,-10.795 ; 1.773,-9.525 2.88,-9.525 ; 1.773,-8.255 2.88,-8.255 ; 1.773,-6.985 2.88,-6.985 ; 1.773,-5.715 2.88,-5.715 ; 1.773,-4.445 2.88,-4.445 ; 1.773,-3.175 2.88,-3.175 ; 1.773,-1.905 2.88,-1.905 ; 1.773,-0.635 2.88,-0.635 ; 2.88,-19.36 6.88,-19.36 6.88,-18.74 2.88,-18.74 ; 2.88,-18.09 6.88,-18.09 6.88,-17.47 2.88,-17.47 ; 2.88,-16.82 6.88,-16.82 6.88,-16.2 2.88,-16.2 ; 2.88,-15.55 6.88,-15.55 6.88,-14.93 2.88,-14.93 ; 2.88,-14.28 6.88,-14.28 6.88,-13.66 2.88,-13.66 ; 2.88,-13.01 6.88,-13.01 6.88,-12.39 2.88,-12.39 ; 2.88,-11.74 6.88,-11.74 6.88,-11.12 2.88,-11.12 ; 2.88,-10.47 6.88,-10.47 6.88,-9.85 2.88,-9.85 ; 2.88,-9.2 6.88,-9.2 6.88,-8.58 2.88,-8.58 ; 2.88,-7.93 6.88,-7.93 6.88,-7.31 2.88,-7.31 ; 2.88,-6.66 6.88,-6.66 6.88,-6.04 2.88,-6.04 ; 2.88,-5.39 6.88,-5.39 6.88,-4.77 2.88,-4.77 ; 2.88,-4.12 6.88,-4.12 6.88,-3.5 2.88,-3.5 ; 2.88,-2.85 6.88,-2.85 6.88,-2.23 2.88,-2.23 ; 2.88,-1.58 6.88,-1.58 6.88,-0.96 2.88,-0.96 ; 2.88,-0.31 6.88,-0.31 6.88,0.31 2.88,0.31 2.88,-0.31
Top Assembly:
  lines w0.254: 1.77,-19.25 -0.2,-19.25 -0.2,-18.85 1.77,-18.85 ; 1.77,-17.98 -0.2,-17.98 -0.2,-17.58 1.77,-17.58 ; 1.77,-16.71 -0.2,-16.71 -0.2,-16.31 1.77,-16.31 ; 1.77,-15.44 -0.2,-15.44 -0.2,-15.04 1.77,-15.04 ; 1.77,-14.17 -0.2,-14.17 -0.2,-13.77 1.77,-13.77 ; 1.77,-12.9 -0.2,-12.9 -0.2,-12.5 1.77,-12.5 ; 1.77,-11.63 -0.2,-11.63 -0.2,-11.23 1.77,-11.23 ; 1.77,-10.36 -0.2,-10.36 -0.2,-9.96 1.77,-9.96 ; 1.77,-9.09 -0.2,-9.09 -0.2,-8.69 1.77,-8.69 ; 1.77,-7.82 -0.2,-7.82 -0.2,-7.42 1.77,-7.42 ; 1.77,-6.55 -0.2,-6.55 -0.2,-6.15 1.77,-6.15 ; 1.77,-5.28 -0.2,-5.28 -0.2,-4.88 1.77,-4.88 ; 1.77,-4.01 -0.2,-4.01 -0.2,-3.61 1.77,-3.61 ; 1.77,-2.74 -0.2,-2.74 -0.2,-2.34 1.77,-2.34 ; 1.77,-1.47 -0.2,-1.47 -0.2,-1.07 1.77,-1.07 ; 1.77,-0.2 -0.2,-0.2 -0.2,0.2 1.77,0.2 ; 2.77,-19.25 6.77,-19.25 6.77,-18.85 2.77,-18.85 ; 2.77,-17.98 6.77,-17.98 6.77,-17.58 2.77,-17.58 ; 2.77,-16.71 6.77,-16.71 6.77,-16.31 2.77,-16.31 ; 2.77,-15.44 6.77,-15.44 6.77,-15.04 2.77,-15.04 ; 2.77,-14.17 6.77,-14.17 6.77,-13.77 2.77,-13.77 ; 2.77,-12.9 6.77,-12.9 6.77,-12.5 2.77,-12.5 ; 2.77,-11.63 6.77,-11.63 6.77,-11.23 2.77,-11.23 ; 2.77,-10.36 6.77,-10.36 6.77,-9.96 2.77,-9.96 ; 2.77,-9.09 6.77,-9.09 6.77,-8.69 2.77,-8.69 ; 2.77,-7.82 6.77,-7.82 6.77,-7.42 2.77,-7.42 ; 2.77,-6.55 6.77,-6.55 6.77,-6.15 2.77,-6.15 ; 2.77,-5.28 6.77,-5.28 6.77,-4.88 2.77,-4.88 ; 2.77,-4.01 6.77,-4.01 6.77,-3.61 2.77,-3.61 ; 2.77,-2.74 6.77,-2.74 6.77,-2.34 2.77,-2.34 ; 2.77,-1.47 6.77,-1.47 6.77,-1.07 2.77,-1.07 ; 2.77,-0.2 6.77,-0.2 6.77,0.2 2.77,0.2 ; 1.77,-19.685 2.77,-19.685 2.77,0.635 2.02,0.635 1.77,0.385 1.77,-19.685
  text "'.Designator'" at 2.774,-11.953 h0.6
Top Courtyard:
  lines w0.254: -1.14,-20.19 7.28,-20.19 7.28,1.14 -1.14,1.14 -1.14,-20.19
Top Designator:
  text ".Designator" at -4.548,-10.033 h1.52

## PinHeader_2x16_P1.27mm_Vertical [mm]
pads (32):
  rect 1x1 hole 0.65: 1(0,0)
  round 1 hole 0.65: 2(1.27,0) 3(0,-1.27) 4(1.27,-1.27) 5(0,-2.54) 6(1.27,-2.54) 7(0,-3.81) 8(1.27,-3.81) 9(0,-5.08) 10(1.27,-5.08) 11(0,-6.35) 12(1.27,-6.35) 13(0,-7.62) 14(1.27,-7.62) 15(0,-8.89) 16(1.27,-8.89) 17(0,-10.16) 18(1.27,-10.16) 19(0,-11.43) 20(1.27,-11.43) 21(0,-12.7) 22(1.27,-12.7) 23(0,-13.97) 24(1.27,-13.97) 25(0,-15.24) 26(1.27,-15.24) 27(0,-16.51) 28(1.27,-16.51) 29(0,-17.78) 30(1.27,-17.78) 31(0,-19.05) 32(1.27,-19.05)
F.SilkS:
  lines w0.254: -1.18,0 -1.18,0.81 0,0.81 ; -0.667,-0.81 -1.18,-0.81 -1.18,-19.795 -0.318,-19.795 ; 0.318,-19.795 0.952,-19.795 ; 1.588,-19.795 2.45,-19.795 2.45,0.745 1.588,0.745
Top Assembly:
  lines w0.254: -1.07,-19.685 2.34,-19.685 2.34,0.635 -0.218,0.635 -1.07,-0.218 -1.07,-19.685
  text "'.Designator'" at 1.475,-13.572 h1
Top Courtyard:
  lines w0.254: -1.57,-20.19 2.84,-20.19 2.84,1.14 -1.57,1.14 -1.57,-20.19
Top Designator:
  text ".Designator" at -6.983,-10.033 h1.52

## PinHeader_2x16_P1.27mm_Vertical_SMD [mm]
pads (32):
  rect 2.4x0.74 smd: 1(-1.95,9.525) 2(1.95,9.525) 3(-1.95,8.255) 4(1.95,8.255) 5(-1.95,6.985) 6(1.95,6.985) 7(-1.95,5.715) 8(1.95,5.715) 9(-1.95,4.445) 10(1.95,4.445) 11(-1.95,3.175) 12(1.95,3.175) 13(-1.95,1.905) 14(1.95,1.905) 15(-1.95,0.635) 16(1.95,0.635) 17(-1.95,-0.635) 18(1.95,-0.635) 19(-1.95,-1.905) 20(1.95,-1.905) 21(-1.95,-3.175) 22(1.95,-3.175) 23(-1.95,-4.445) 24(1.95,-4.445) 25(-1.95,-5.715) 26(1.95,-5.715) 27(-1.95,-6.985) 28(1.95,-6.985) 29(-1.95,-8.255) 30(1.95,-8.255) 31(-1.95,-9.525) 32(1.95,-9.525)
F.SilkS:
  lines w0.254: -3.09,10.205 -1.815,10.205 -1.815,10.27 1.815,10.27 1.815,10.205 ; -1.815,-10.205 -1.815,-10.27 1.815,-10.27 1.815,-10.205
Top Assembly:
  lines w0.254: -1.705,-9.725 -2.75,-9.725 -2.75,-9.325 -1.705,-9.325 ; -1.705,-8.455 -2.75,-8.455 -2.75,-8.055 -1.705,-8.055 ; -1.705,-7.185 -2.75,-7.185 -2.75,-6.785 -1.705,-6.785 ; -1.705,-5.915 -2.75,-5.915 -2.75,-5.515 -1.705,-5.515 ; -1.705,-4.645 -2.75,-4.645 -2.75,-4.245 -1.705,-4.245 ; -1.705,-3.375 -2.75,-3.375 -2.75,-2.975 -1.705,-2.975 ; -1.705,-2.105 -2.75,-2.105 -2.75,-1.705 -1.705,-1.705 ; -1.705,-0.835 -2.75,-0.835 -2.75,-0.435 -1.705,-0.435 ; -1.705,0.435 -2.75,0.435 -2.75,0.835 -1.705,0.835 ; -1.705,1.705 -2.75,1.705 -2.75,2.105 -1.705,2.105 ; -1.705,2.975 -2.75,2.975 -2.75,3.375 -1.705,3.375 ; -1.705,4.245 -2.75,4.245 -2.75,4.645 -1.705,4.645 ; -1.705,5.515 -2.75,5.515 -2.75,5.915 -1.705,5.915 ; -1.705,6.785 -2.75,6.785 -2.75,7.185 -1.705,7.185 ; -1.705,8.055 -2.75,8.055 -2.75,8.455 -1.705,8.455 ; -1.705,9.325 -2.75,9.325 -2.75,9.725 -1.705,9.725 ; 1.705,-9.725 2.75,-9.725 2.75,-9.325 1.705,-9.325 ; 1.705,-8.455 2.75,-8.455 2.75,-8.055 1.705,-8.055 ; 1.705,-7.185 2.75,-7.185 2.75,-6.785 1.705,-6.785 ; 1.705,-5.915 2.75,-5.915 2.75,-5.515 1.705,-5.515 ; 1.705,-4.645 2.75,-4.645 2.75,-4.245 1.705,-4.245 ; 1.705,-3.375 2.75,-3.375 2.75,-2.975 1.705,-2.975 ; 1.705,-2.105 2.75,-2.105 2.75,-1.705 1.705,-1.705 ; 1.705,-0.835 2.75,-0.835 2.75,-0.435 1.705,-0.435 ; 1.705,0.435 2.75,0.435 2.75,0.835 1.705,0.835 ; 1.705,1.705 2.75,1.705 2.75,2.105 1.705,2.105 ; 1.705,2.975 2.75,2.975 2.75,3.375 1.705,3.375 ; 1.705,4.245 2.75,4.245 2.75,4.645 1.705,4.645 ; 1.705,5.515 2.75,5.515 2.75,5.915 1.705,5.915 ; 1.705,6.785 2.75,6.785 2.75,7.185 1.705,7.185 ; 1.705,8.055 2.75,8.055 2.75,8.455 1.705,8.455 ; 1.705,9.325 2.75,9.325 2.75,9.725 1.705,9.725 ; -1.705,9.725 -1.705,-10.16 1.705,-10.16 1.705,10.16 -1.27,10.16 -1.705,9.725
  text "'.Designator'" at 0.84,-4.047 h1
Top Courtyard:
  lines w0.254: -4.29,-10.67 4.29,-10.67 4.29,10.67 -4.29,10.67 -4.29,-10.67
Top Designator:
  text ".Designator" at -7.618,-0.508 h1.52

## PinHeader_2x17_P1.27mm_Horizontal [mm]
pads (34):
  rect 1x1 hole 0.65: 1(0,0)
  round 1 hole 0.65: 2(1.27,0) 3(0,-1.27) 4(1.27,-1.27) 5(0,-2.54) 6(1.27,-2.54) 7(0,-3.81) 8(1.27,-3.81) 9(0,-5.08) 10(1.27,-5.08) 11(0,-6.35) 12(1.27,-6.35) 13(0,-7.62) 14(1.27,-7.62) 15(0,-8.89) 16(1.27,-8.89) 17(0,-10.16) 18(1.27,-10.16) 19(0,-11.43) 20(1.27,-11.43) 21(0,-12.7) 22(1.27,-12.7) 23(0,-13.97) 24(1.27,-13.97) 25(0,-15.24) 26(1.27,-15.24) 27(0,-16.51) 28(1.27,-16.51) 29(0,-17.78) 30(1.27,-17.78) 31(0,-19.05) 32(1.27,-19.05) 33(0,-20.32) 34(1.27,-20.32)
F.SilkS:
  lines w0.254: -0.81,0 -0.81,0.81 0,0.81 ; 1.588,0.745 2.88,0.745 2.88,-21.065 1.66,-21.065 ; 1.773,-19.685 2.88,-19.685 ; 1.773,-18.415 2.88,-18.415 ; 1.773,-17.145 2.88,-17.145 ; 1.773,-15.875 2.88,-15.875 ; 1.773,-14.605 2.88,-14.605 ; 1.773,-13.335 2.88,-13.335 ; 1.773,-12.065 2.88,-12.065 ; 1.773,-10.795 2.88,-10.795 ; 1.773,-9.525 2.88,-9.525 ; 1.773,-8.255 2.88,-8.255 ; 1.773,-6.985 2.88,-6.985 ; 1.773,-5.715 2.88,-5.715 ; 1.773,-4.445 2.88,-4.445 ; 1.773,-3.175 2.88,-3.175 ; 1.773,-1.905 2.88,-1.905 ; 1.773,-0.635 2.88,-0.635 ; 2.88,-20.63 6.88,-20.63 6.88,-20.01 2.88,-20.01 ; 2.88,-19.36 6.88,-19.36 6.88,-18.74 2.88,-18.74 ; 2.88,-18.09 6.88,-18.09 6.88,-17.47 2.88,-17.47 ; 2.88,-16.82 6.88,-16.82 6.88,-16.2 2.88,-16.2 ; 2.88,-15.55 6.88,-15.55 6.88,-14.93 2.88,-14.93 ; 2.88,-14.28 6.88,-14.28 6.88,-13.66 2.88,-13.66 ; 2.88,-13.01 6.88,-13.01 6.88,-12.39 2.88,-12.39 ; 2.88,-11.74 6.88,-11.74 6.88,-11.12 2.88,-11.12 ; 2.88,-10.47 6.88,-10.47 6.88,-9.85 2.88,-9.85 ; 2.88,-9.2 6.88,-9.2 6.88,-8.58 2.88,-8.58 ; 2.88,-7.93 6.88,-7.93 6.88,-7.31 2.88,-7.31 ; 2.88,-6.66 6.88,-6.66 6.88,-6.04 2.88,-6.04 ; 2.88,-5.39 6.88,-5.39 6.88,-4.77 2.88,-4.77 ; 2.88,-4.12 6.88,-4.12 6.88,-3.5 2.88,-3.5 ; 2.88,-2.85 6.88,-2.85 6.88,-2.23 2.88,-2.23 ; 2.88,-1.58 6.88,-1.58 6.88,-0.96 2.88,-0.96 ; 2.88,-0.31 6.88,-0.31 6.88,0.31 2.88,0.31 2.88,-0.31
Top Assembly:
  lines w0.254: 1.77,-20.52 -0.2,-20.52 -0.2,-20.12 1.77,-20.12 ; 1.77,-19.25 -0.2,-19.25 -0.2,-18.85 1.77,-18.85 ; 1.77,-17.98 -0.2,-17.98 -0.2,-17.58 1.77,-17.58 ; 1.77,-16.71 -0.2,-16.71 -0.2,-16.31 1.77,-16.31 ; 1.77,-15.44 -0.2,-15.44 -0.2,-15.04 1.77,-15.04 ; 1.77,-14.17 -0.2,-14.17 -0.2,-13.77 1.77,-13.77 ; 1.77,-12.9 -0.2,-12.9 -0.2,-12.5 1.77,-12.5 ; 1.77,-11.63 -0.2,-11.63 -0.2,-11.23 1.77,-11.23 ; 1.77,-10.36 -0.2,-10.36 -0.2,-9.96 1.77,-9.96 ; 1.77,-9.09 -0.2,-9.09 -0.2,-8.69 1.77,-8.69 ; 1.77,-7.82 -0.2,-7.82 -0.2,-7.42 1.77,-7.42 ; 1.77,-6.55 -0.2,-6.55 -0.2,-6.15 1.77,-6.15 ; 1.77,-5.28 -0.2,-5.28 -0.2,-4.88 1.77,-4.88 ; 1.77,-4.01 -0.2,-4.01 -0.2,-3.61 1.77,-3.61 ; 1.77,-2.74 -0.2,-2.74 -0.2,-2.34 1.77,-2.34 ; 1.77,-1.47 -0.2,-1.47 -0.2,-1.07 1.77,-1.07 ; 1.77,-0.2 -0.2,-0.2 -0.2,0.2 1.77,0.2 ; 2.77,-20.52 6.77,-20.52 6.77,-20.12 2.77,-20.12 ; 2.77,-19.25 6.77,-19.25 6.77,-18.85 2.77,-18.85 ; 2.77,-17.98 6.77,-17.98 6.77,-17.58 2.77,-17.58 ; 2.77,-16.71 6.77,-16.71 6.77,-16.31 2.77,-16.31 ; 2.77,-15.44 6.77,-15.44 6.77,-15.04 2.77,-15.04 ; 2.77,-14.17 6.77,-14.17 6.77,-13.77 2.77,-13.77 ; 2.77,-12.9 6.77,-12.9 6.77,-12.5 2.77,-12.5 ; 2.77,-11.63 6.77,-11.63 6.77,-11.23 2.77,-11.23 ; 2.77,-10.36 6.77,-10.36 6.77,-9.96 2.77,-9.96 ; 2.77,-9.09 6.77,-9.09 6.77,-8.69 2.77,-8.69 ; 2.77,-7.82 6.77,-7.82 6.77,-7.42 2.77,-7.42 ; 2.77,-6.55 6.77,-6.55 6.77,-6.15 2.77,-6.15 ; 2.77,-5.28 6.77,-5.28 6.77,-4.88 2.77,-4.88 ; 2.77,-4.01 6.77,-4.01 6.77,-3.61 2.77,-3.61 ; 2.77,-2.74 6.77,-2.74 6.77,-2.34 2.77,-2.34 ; 2.77,-1.47 6.77,-1.47 6.77,-1.07 2.77,-1.07 ; 2.77,-0.2 6.77,-0.2 6.77,0.2 2.77,0.2 ; 1.77,-20.955 2.77,-20.955 2.77,0.635 2.02,0.635 1.77,0.385 1.77,-20.955
  text "'.Designator'" at 2.774,-12.588 h0.6
Top Courtyard:
  lines w0.254: -1.14,-21.46 7.28,-21.46 7.28,1.14 -1.14,1.14 -1.14,-21.46
Top Designator:
  text ".Designator" at -4.548,-10.668 h1.52

## PinHeader_2x17_P1.27mm_Vertical [mm]
pads (34):
  rect 1x1 hole 0.65: 1(0,0)
  round 1 hole 0.65: 2(1.27,0) 3(0,-1.27) 4(1.27,-1.27) 5(0,-2.54) 6(1.27,-2.54) 7(0,-3.81) 8(1.27,-3.81) 9(0,-5.08) 10(1.27,-5.08) 11(0,-6.35) 12(1.27,-6.35) 13(0,-7.62) 14(1.27,-7.62) 15(0,-8.89) 16(1.27,-8.89) 17(0,-10.16) 18(1.27,-10.16) 19(0,-11.43) 20(1.27,-11.43) 21(0,-12.7) 22(1.27,-12.7) 23(0,-13.97) 24(1.27,-13.97) 25(0,-15.24) 26(1.27,-15.24) 27(0,-16.51) 28(1.27,-16.51) 29(0,-17.78) 30(1.27,-17.78) 31(0,-19.05) 32(1.27,-19.05) 33(0,-20.32) 34(1.27,-20.32)
F.SilkS:
  lines w0.254: -1.18,0 -1.18,0.81 0,0.81 ; -0.667,-0.81 -1.18,-0.81 -1.18,-21.065 -0.318,-21.065 ; 0.318,-21.065 0.952,-21.065 ; 1.588,-21.065 2.45,-21.065 2.45,0.745 1.588,0.745
Top Assembly:
  lines w0.254: -1.07,-20.955 2.34,-20.955 2.34,0.635 -0.218,0.635 -1.07,-0.218 -1.07,-20.955
  text "'.Designator'" at 1.475,-14.207 h1
Top Courtyard:
  lines w0.254: -1.57,-21.46 2.84,-21.46 2.84,1.14 -1.57,1.14 -1.57,-21.46
Top Designator:
  text ".Designator" at -6.983,-10.668 h1.52